# Altium footprint library axsem_zoorion_modules_v1-0.PCBLIB: 1 footprints
Each footprint in its own frame and in the unit in brackets; x right, y up, seen from the top. Pads: shape width x height; smd on the part's side, far side on the other; paste and mask are expansions set on the pad; w line width, h text height; cw(c..) or ccw(c..) is an arc to the next point about the centre after c.
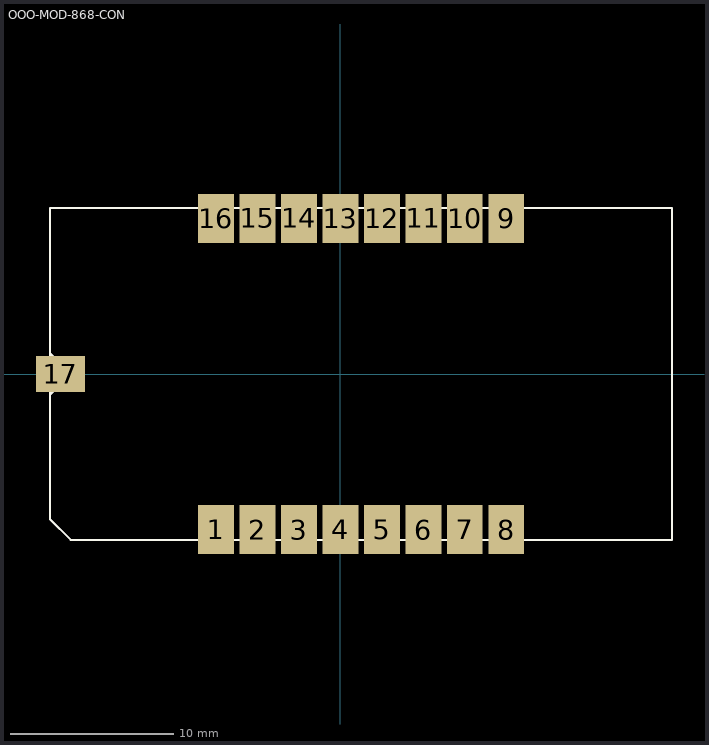
[diagram p0: the footprint, top view; thin cyan lines are the x and y axes]

## OOO-MOD-868-CON [mm]
pads (17):
  rect 2.2x3 smd: 1(-7.62,-9.525) 2(-5.08,-9.525) 3(-2.54,-9.525) 4(0,-9.525) 5(2.54,-9.525) 6(5.08,-9.525) 7(7.62,-9.525) 8(10.16,-9.525) 9(10.16,9.525) 10(7.62,9.525) 11(5.08,9.525) 12(2.54,9.525) 13(0,9.525) 14(-2.54,9.525) 15(-5.08,9.525) 16(-7.62,9.525)
  rect 3x2.2 smd: 17(-17.145,0)
Top Overlay:
  lines w0.127: -17.78,-1.27 -17.78,1.27 ; -17.78,-1.27 -17.78,-8.89 -16.51,-10.16 20.32,-10.16 20.32,10.16 -17.78,10.16 -17.78,1.27 ; -17.78,-1.27 -16.51,0 -17.78,1.27